# Altium footprint library smartlock.PcbLib: 17 footprints (part 2 of 2)
Each footprint in its own frame and in the unit in brackets; x right, y up, seen from the top. Pads: shape width x height; smd on the part's side, far side on the other; paste and mask are expansions set on the pad; w line width, h text height; cw(c..) or ccw(c..) is an arc to the next point about the centre after c.
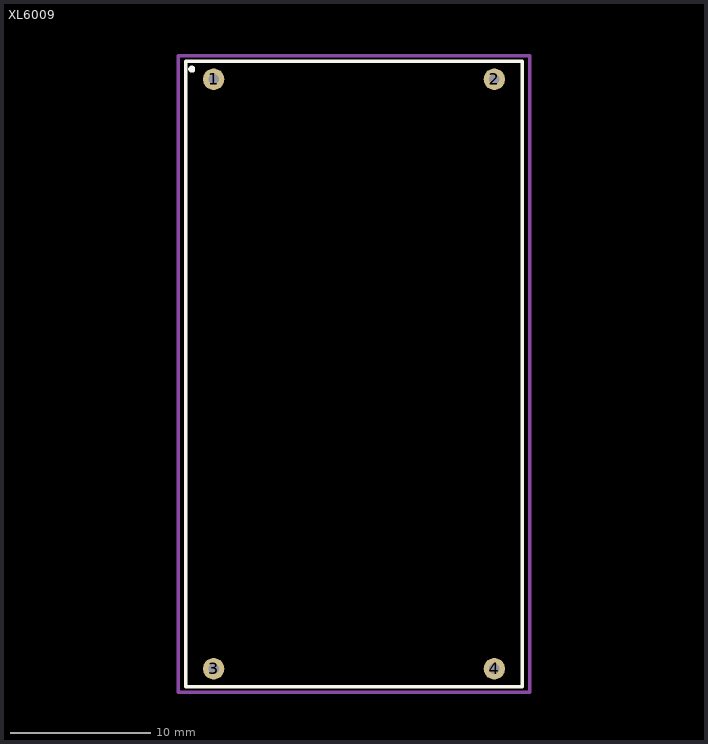
[diagram p1: the footprint, top view; thin cyan lines are the x and y axes]

## XL6009 [mil]
pads (4):
  round 60 hole 30: 1(11126.3,1851.77) 2(11913.7,1851.77) 3(11126.3,198.23) 4(11913.7,198.23)
Top Overlay:
  lines w10: 11069.47,1877.76 cw(c11065,1880) 11069.53,1882.11 ; 11047.5,147.5 11992.5,147.5 11992.5,1902.5 11047.5,1902.5 11047.5,147.5
Mechanical 15:
  lines w10: 11027.5,132.5 12012.5,132.5 12012.5,1917.5 11027.5,1917.5 11027.5,132.5